# EAGLE library part 649010227222 (library Wire_to_Board_Connectors_rev15d)
WR-MPC4-4.20mm Male Dual Row Angled Header with Mounting Pegs,10 pins=>Code : Con_WTB_MPC4_2_PCB_649010227222 <http://katalog.we-online.de/media/thumbs2/eican/thb_Con_WTB_MPC4_2_PCB_6490xx227222_pf2.jpg> Details see: http://katalog.we-online.de/en/em/649_0xx_227_222 Created 2014-06-06, Karrer Zheng 2014 (C) Würth Elektronik
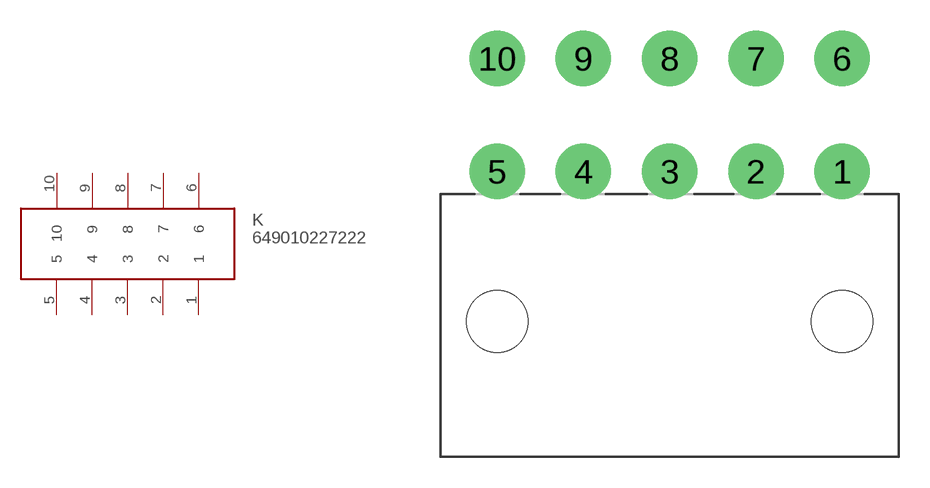
[diagram p288: symbol with the pads of 649010227222; footprint 649010227222]

Designator prefix K

## 649010227222  [649010227222]
1  1
2  2
3  3
4  4
5  5
6  6
7  7
8  8
9  9
10  10

## Footprint 649010227222 (pad centres in mm)
WR-MPC4-4.20mm Male Dual Row Angled Header with Mounting Pegs,10 pins
drill 1.8: 1 8.4,7.3; 2 4.2,7.3; 3 0,7.3; 4 -4.2,7.3; 5 -8.4,7.3; 6 8.4,12.8; 7 4.2,12.8; 8 0,12.8; 9 -4.2,12.8; 10 -8.4,12.8
hole 3 at -8.4,0
hole 3 at 8.4,0